# Altium schematic symbol library SCH - INTERFACE - TI TUSB2036.SCHLIB: 1 symbol
Pins are listed as number, name and electrical type; pins without a type are passive.

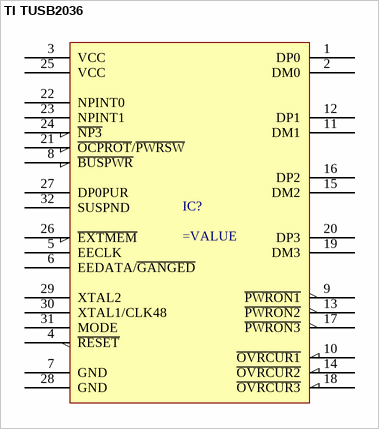
[diagram p0: symbol TI TUSB2036]

## TI TUSB2036
designator IC?
pins: 1 DP0, 2 DM0, 3 VCC, 4 ~{RESET}, 5 EECLK, 6 EEDATA/~{GANGED}, 7 GND, 8 ~{BUSPWR}, 9 ~{PWRON1}, 10 ~{OVRCUR1}, 11 DM1, 12 DP1, 13 ~{PWRON2}, 14 ~{OVRCUR2}, 15 DM2, 16 DP2, 17 ~{PWRON3}, 18 ~{OVRCUR3}, 19 DM3, 20 DP3, 21 ~{OCPROT}/~{PWRSW}, 22 NPINT0, 23 NPINT1, 24 ~{NP3}, 25 VCC, 26 ~{EXTMEM}, 27 DP0PUR, 28 GND, 29 XTAL2, 30 XTAL1/CLK48, 31 MODE, 32 SUSPND